# EAGLE library part BQ24251 (library hybridpi)
2A I2C Switching Li-Ion Battery Charger With automatic USB current limiting Datasheet: BQ24251 <http://www.ti.com/lit/ds/slusba1b/slusba1b.pdf>
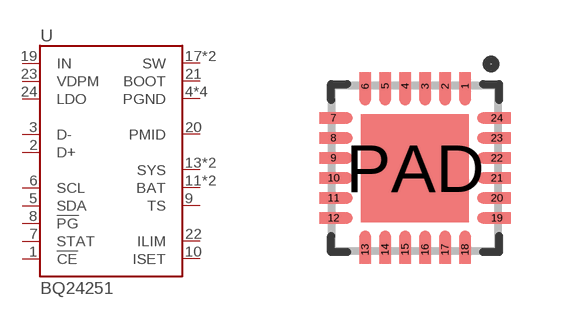
[diagram p7: symbol with the pads of VQFN-24; footprint VQFN-24]

Designator prefix U

## BQ24251 (VENDOR: DIGI-KEY; VENDOR_PN: 296-36444-1-ND)  [VQFN-24]
1  !CE!
2  D+
3  D-
4  PGND
5  SDA
6  SCL
7  STAT
8  !PG!
9  TS
10  ISET
11  BAT
12  BAT
13  SYS
14  SYS
15  PGND
16  PGND
17  SW
18  SW
19  IN
20  PMID
21  BOOT
22  ILIM
23  VDPM
24  LDO
PAD  PGND

## Footprint VQFN-24 (pad centres in mm)
smd 0.28 x 0.71: 1 1.251,2.044; 2 0.751,2.044; 3 0.251,2.044; 4 -0.249,2.044; 5 -0.749,2.044; 6 -1.249,2.044; 13 -1.251,-2.044; 14 -0.751,-2.044; 15 -0.251,-2.044; 16 0.249,-2.044; 17 0.749,-2.044; 18 1.249,-2.044
smd 0.71 x 0.28: 7 -2.044,1.251; 8 -2.044,0.751; 9 -2.044,0.251; 10 -2.044,-0.249; 11 -2.044,-0.749; 12 -2.044,-1.249; 19 2.044,-1.251; 20 2.044,-0.751; 21 2.044,-0.251; 22 2.044,0.249; 23 2.044,0.749; 24 2.044,1.249
smd 2.7 x 2.7: PAD 0,0